# Altium schematic symbol library BGA2815,115.SchLib: 2 symbols
Pins are listed as number, name and electrical type; pins without a type are passive.

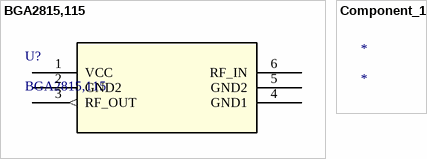
[diagram p0: symbols BGA2815,115 to Component_1]

## BGA2815,115
designator U?
No Description Available; Mfr_Name: NXP; Copyright: Copyright (C) 2023 Ultra Librarian. All rights reserved.; Manufacturer_Part_Number: BGA2815,115; RefDes: RefDes; Type: DEV
footprint SOT_2815,115_NXP
pins: 1 VCC (power), 2 GND2 (power), 3 RF_OUT (out), 4 GND1 (power), 5 GND2 (power), 6 RF_IN

## Component_1
designator *